# Altium schematic symbol library TB9051FTG.SchLib: 1 symbol
Pins are listed as number, name and electrical type; pins without a type are passive.

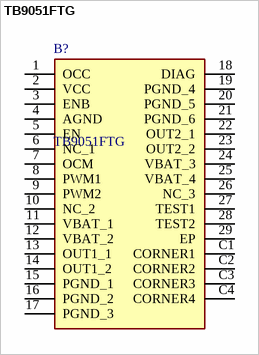
[diagram p0: symbol TB9051FTG]

## TB9051FTG
designator B?
PWM type single channel H-Bridge DC brushed motor driver for automotive use; Manufacturer_Name: Toshiba; Geometry.Height: 1.8mm; Manufacturer_Part_Number: TB9051FTG; Mouser Part Number: *; Mouser Price/Stock: *; Arrow Part Number: *; Arrow Price/Stock: *; Datasheet Link: https://toshiba.semicon-storage.com/ap-en/semiconductor/product/automotive-devices/detail.TB9051FTG.html
footprint TB9051FTG
pins: 1 OCC, 2 VCC, 3 ENB, 4 AGND, 5 EN, 6 NC_1, 7 OCM, 8 PWM1, 9 PWM2, 10 NC_2, 11 VBAT_1, 12 VBAT_2, 13 OUT1_1, 14 OUT1_2, 15 PGND_1, 16 PGND_2, 17 PGND_3, 18 DIAG, 19 PGND_4, 20 PGND_5, 21 PGND_6, 22 OUT2_1, 23 OUT2_2, 24 VBAT_3, 25 VBAT_4, 26 NC_3, 27 TEST1, 28 TEST2, 29 EP, C1 CORNER1, C2 CORNER2, C3 CORNER3, C4 CORNER4